# Altium schematic symbol library MP-M3.SchLib: 1 symbol
Pins are listed as number, name and electrical type; pins without a type are passive.

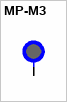
[diagram p0: symbol MP-M3]

## MP-M3
designator MH?
=Description
pins: 1